# Altium footprint library NAPaC_DevKitC-DetachableModule_PcbLib.PcbLib: 4 footprints
Each footprint in its own frame and in the unit in brackets; x right, y up, seen from the top. Pads: shape width x height; smd on the part's side, far side on the other; paste and mask are expansions set on the pad; w line width, h text height; cw(c..) or ccw(c..) is an arc to the next point about the centre after c.
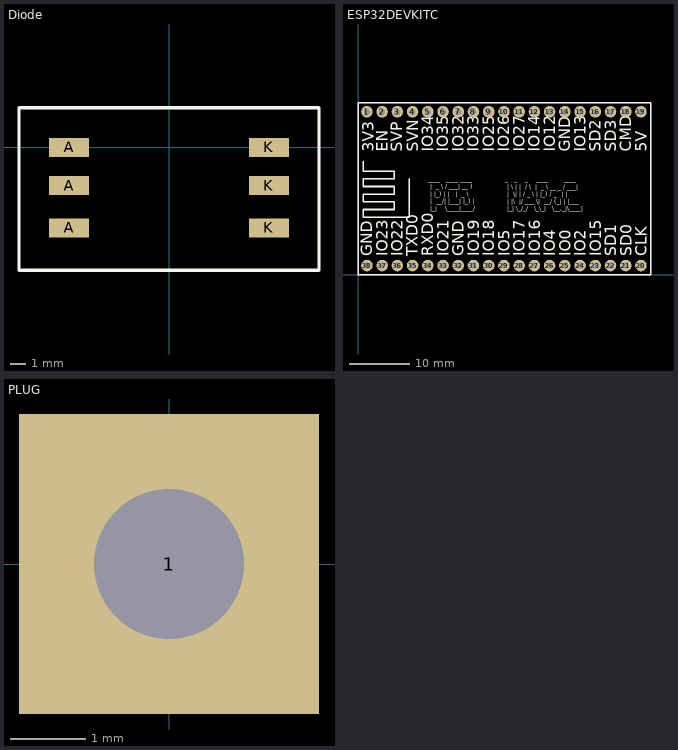
[diagram p0: the footprints below, top view; thin cyan lines are the x and y axes]

## Diode [mm]
pads (6):
  rect 2.5x1.2 smd: A(-6.3,-5.08) A(-6.3,-2.413) A(-6.3,0) K(6.3,-5.08) K(6.3,-2.413) K(6.3,0)
Top Overlay:
  lines w0.2: -9.45,-7.747 9.45,-7.747 9.45,2.5 -9.45,2.5 -9.45,0 -9.45,-7.747

## ESP32DEVKITC [mil]
pads (38):
  round 76 hole 39.37: 1(58.54,1071.97) 2(158.54,1071.97) 3(258.54,1071.97) 4(358.54,1071.97) 5(458.54,1071.97) 6(558.54,1071.97) 7(658.54,1071.97) 8(758.54,1071.97) 9(858.54,1071.97) 10(958.54,1071.97) 11(1058.54,1071.97) 12(1158.54,1071.97) 13(1258.54,1071.97) 14(1358.54,1071.97) 15(1458.54,1071.97) 16(1558.54,1071.97) 17(1658.54,1071.97) 18(1758.54,1071.97) 19(1858.54,1071.97) 20(1858.54,61.73) 21(1758.54,61.73) 22(1658.54,61.73) 23(1558.54,61.73) 24(1458.54,61.73) 25(1358.54,61.73) 26(1258.54,61.73) 27(1158.54,61.73) 28(1058.54,61.73) 29(958.54,61.73) 30(858.54,61.73) 31(758.54,61.73) 32(658.54,61.73) 33(558.54,61.73) 34(458.54,61.73) 35(358.54,61.73) 36(258.54,61.73) 37(158.54,61.73) 38(58.54,61.73)
Top Overlay:
  lines w10: 0,0 1921.81,0 1921.81,1129.69 1921.65,1129.84 1.06,1129.84 ; 1.06,-0.59 1.06,1129.21 ; 35.04,748.35 35.04,681.89 236.61,681.89 236.61,631.5 35.04,631.5 35.04,581.1 236.61,581.1 236.61,530.71 35.04,530.71 35.04,480.32 236.61,480.32 236.61,429.92 35.04,429.92 35.04,379.53 337.4,379.53 337.4,631.5
  text "_   _    _    ____        ____  /  | \ | |  / \  |  _ \ __ _ / ___| /  |  \| | / _ \ | |_) / _` | |     /  | |\  |/ ___ \|  __/ (_| | |___  /  |_| \_/_/   \_\_|   \__,_|\____|" at 966.22,411.85 h47.24
  text "____   ____ ____   /  |  _ \ / ___| __ )  /  | |_) | |   |  _ \  /  |  __/| |___| |_) | /  |_|    \____|____/" at 462.13,413.35 h47.24
  text "3V3" at 102.35,810.09 h73.82
  text "EN" at 193.83,810.69 h73.82
  text "SVP" at 292.09,809.68 h73.82
  text "SVN" at 394.22,810.83 h73.82
  text "IO34" at 494.01,810.62 h73.82
  text "IO35" at 593.52,810.02 h73.82
  text "IO32" at 693.82,810.06 h73.82
  text "IO33" at 794.22,810.36 h73.82
  text "IO25" at 894.34,810.11 h73.82
  text "IO26" at 994.56,810.52 h73.82
  text "IO27" at 1094.77,810.31 h73.82
  text "IO14" at 1194.95,810.32 h73.82
  text "IO12" at 1294.98,810.5 h73.82
  text "GND" at 1394.78,810.8 h73.82
  text "IO13" at 1496.28,809.78 h73.82
  text "SD2" at 1595.38,810.51 h73.82
  text "SD3" at 1695.86,810.34 h73.82
  text "CMD" at 1795.13,810.75 h73.82
  text "5V" at 1896.59,810.19 h73.82
  text "GND" at 93.65,122.26 h73.82
  text "IO23" at 194.69,121.98 h73.82
  text "IO22" at 294.79,121.97 h73.82
  text "TXD0" at 393.92,122.4 h73.82
  text "RXD0" at 493.91,122.54 h73.82
  text "IO21" at 594.8,122.13 h73.82
  text "GND" at 695.16,121.91 h73.82
  text "IO19" at 794.84,122.48 h73.82
  text "IO18" at 895.21,122.15 h73.82
  text "IO5" at 995.39,122.48 h73.82
  text "IO17" at 1095.55,122.24 h73.82
  text "IO16" at 1195.74,122.25 h73.82
  text "IO4" at 1295.66,122.04 h73.82
  text "IO0" at 1396.39,122.42 h73.82
  text "IO2" at 1496.66,122.43 h73.82
  text "IO15" at 1596.43,122.23 h73.82
  text "SD1" at 1697.17,122.43 h73.82
  text "SD0" at 1797.04,122.31 h73.82
  text "CLK" at 1896.69,122.15 h73.82

## PCBComponent_1 - duplicate [mil]

## PLUG [mm]
pads (1):
  rect 4x4 hole 2: 1(0,0)